# Altium schematic symbol library LED,Tri-Color,RGB,SMD,5050.Schlib: 1 symbol
Pins are listed as number, name and electrical type; pins without a type are passive.

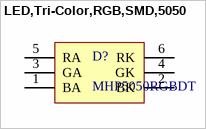
[diagram p0: symbol LED,Tri-Color,RGB,SMD,5050]

## LED,Tri-Color,RGB,SMD,5050
designator D?, comment MHP5050RGBDT
SMD,5x5mm Light Emitting Diodes (LED) RoHS
pins: 1 BA, 2 BK, 3 GA, 4 GK, 5 RA, 6 RK